# EAGLE library part ADP5063 (library oresat-batteries)
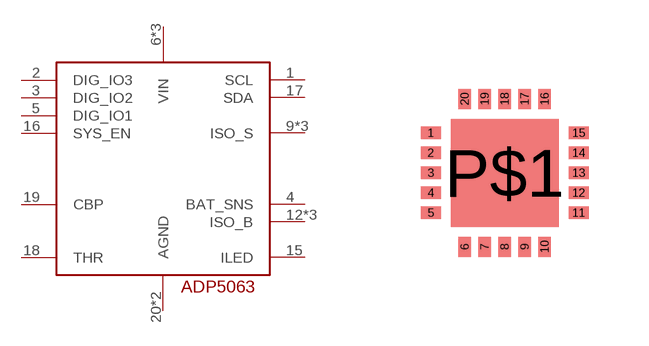
[diagram p0: symbol with the pads of 20_4X4_VVTQ; footprint 20_4X4_VVTQ]

Designator prefix -

## ADP5063  [20_4X4_VVTQ]
1  SCL
2  DIG_IO3
3  DIG_IO2
4  BAT_SNS
5  DIG_IO1
6  VIN
7  VIN
8  VIN
9  ISO_S
10  ISO_S
11  ISO_S
12  ISO_B
13  ISO_B
14  ISO_B
15  ILED
16  SYS_EN
17  SDA
18  THR
19  CBP
20  AGND
P$1  AGND

## Footprint 20_4X4_VVTQ (pad centres in mm)
smd 0.5 x 0.31: 1 -1.85,1; 2 -1.85,0.5; 3 -1.85,0; 4 -1.85,-0.5; 5 -1.85,-1; 11 1.85,-1; 12 1.85,-0.5; 13 1.85,0; 14 1.85,0.5; 15 1.85,1
smd 0.31 x 0.5: 6 -1,-1.85; 7 -0.5,-1.85; 8 0,-1.85; 9 0.5,-1.85; 10 1,-1.85; 16 1,1.85; 17 0.5,1.85; 18 0,1.85; 19 -0.5,1.85; 20 -1,1.85
smd 2.7 x 2.7: P$1 0,0